# EAGLE library part 3ROW_6POS (library SolarJackets_Common)
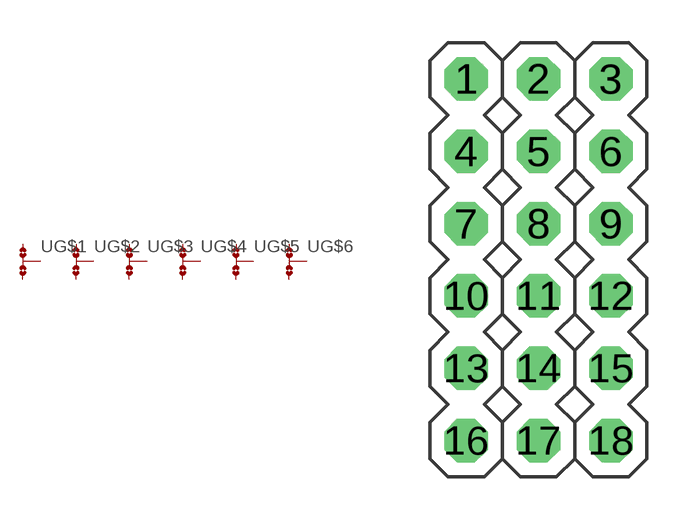
[diagram p18: symbol with the pads of 3ROW_6POS; footprint 3ROW_6POS]

Designator prefix -; gates G$1=0RJM G$2=0RJM G$3=0RJM G$4=0RJM G$5=0RJM G$6=0RJM

## 3ROW_6POS  [3ROW_6POS]
1  G$1:1  pas
2  G$1:2  pas
3  G$1:3  pas
4  G$2:1  pas
5  G$2:2  pas
6  G$2:3  pas
7  G$3:1  pas
8  G$3:2  pas
9  G$3:3  pas
10  G$4:1  pas
11  G$4:2  pas
12  G$4:3  pas
13  G$5:1  pas
14  G$5:2  pas
15  G$5:3  pas
16  G$6:1  pas
17  G$6:2  pas
18  G$6:3  pas

## Footprint 3ROW_6POS (pad centres in mm)
drill 1.016 octagon: 1 0,0; 2 2.54,0; 3 5.08,0; 4 0,-2.54; 5 2.54,-2.54; 6 5.08,-2.54; 7 0,-5.08; 8 2.54,-5.08; 9 5.08,-5.08; 10 0,-7.62; 11 2.54,-7.62; 12 5.08,-7.62; 13 0,-10.16; 14 2.54,-10.16; 15 5.08,-10.16; 16 0,-12.7; 17 2.54,-12.7; 18 5.08,-12.7